# Altium footprint library myPcbLib.PcbLib: 116 footprints (part 8 of 8)
Each footprint in its own frame and in the unit in brackets; x right, y up, seen from the top. Pads: shape width x height; smd on the part's side, far side on the other; paste and mask are expansions set on the pad; w line width, h text height; cw(c..) or ccw(c..) is an arc to the next point about the centre after c.
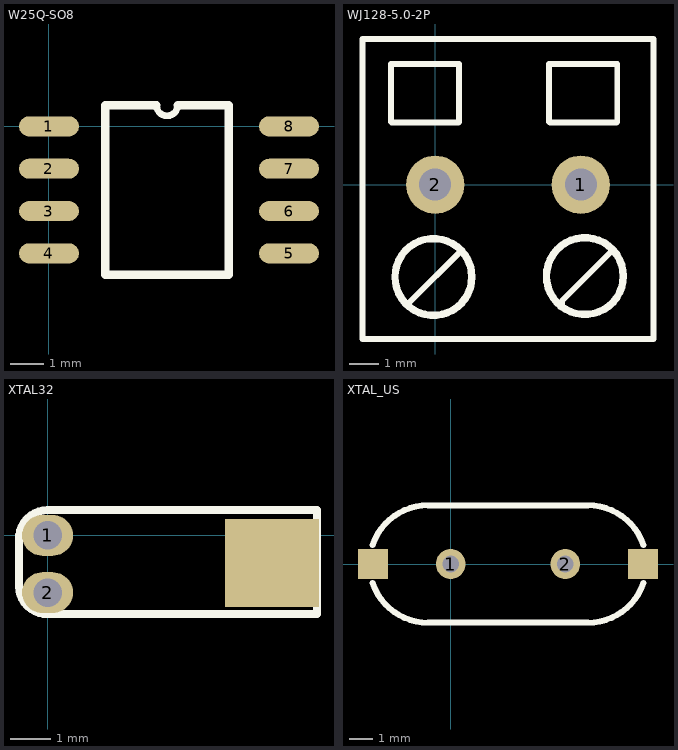
[diagram p7: the footprints below, top view; thin cyan lines are the x and y axes]

## W25Q-SO8 [mm]
pads (8):
  oval 1.8x0.6 smd: 1(0,0) 2(0,-1.27) 3(0,-2.54) 4(0,-3.81) 5(7.2,-3.81) 6(7.2,-2.54) 7(7.2,-1.27) 8(7.2,0)
Top Overlay:
  lines w0.2: 3.225,0.635 ccw(c3.542,0.635) 3.86,0.635
  lines w0.254: 3.225,0.635 1.687,0.635 1.687,-4.445 5.397,-4.445 5.397,0.635 3.86,0.635
3D body "SOIC8_Wide.STEP": height 1.75, standoff -0.01, extent -0.452,-4.63 7.65,0.83

## WJ128-5.0-2P [mm]
pads (2):
  round 2 hole 1.1: 1(5,0) 2(0,0)
Top Overlay:
  circle w0.254: c-0.06,-3.17 r1.319
  circle w0.254: c5.14,-3.14 r1.319
  lines w0.2: -2.5,-5.3 0,-5.3 5,-5.3 7.5,-5.3 7.5,0.19 ; -2.5,-5.25 -2.5,0 -2.5,5 7.5,5 7.5,0 ; -0.89,-4.2 -0.89,-4.05 0.91,-2.25 ; 0,5 5,5 ; 4.36,-4.23 4.36,-3.98 6.03,-2.31 ; -1.52,2.16 -1.49,2.13 0.8,2.13 0.82,2.15 0.82,4.14 -1.52,4.14 -1.52,2.16 ; 3.91,2.16 3.91,4.14 6.25,4.14 6.25,2.15 6.23,2.13 3.94,2.13 3.91,2.16

## XTAL32 [mil]
pads (3):
  oval 50x40 hole 28: 1(0,0) 2(0,-56)
  rect 92.13x86 smd: ""(220,-27)
Top Overlay:
  lines w8: -28,-50 ccw(c-0.5,-49.5) 0,-77 264,-77 264,25 0,25 ccw(c0.5,-3.5) -28,-4 -28,-50

## XTAL_US [mil]
pads (4):
  round 50 hole 28: 1(0,0) 2(192.13,0)
  rect 50x50 smd: ""(-130.32,0) ""(322.44,0)
Top Overlay:
  lines w10: -130.92,-31.85 ccw(c-37.79,0) -37.79,-98.42 ; -130.92,31.85 cw(c-37.79,0) -37.79,98.43 ; -38,98.42 229.92,98.43 cw(c229.92,0) 323.05,31.85 ; -37.8,-98.43 229.92,-98.42 ccw(c229.92,0) 323.05,-31.85